# EAGLE library part FSJ_CC_CARD (library bt)
FSJ Cruise Command Card Card edge pads for Cruise Command (cruise control) module found in Full Size Jeeps and some AMC cars. The card edge connector is single-sided with 14 pins, of which two are not used, with a locator slot / terminal release between pins 8 and 9. The pads are spaced on a 5/32" pitch and are approximately 0.080 in. wide.
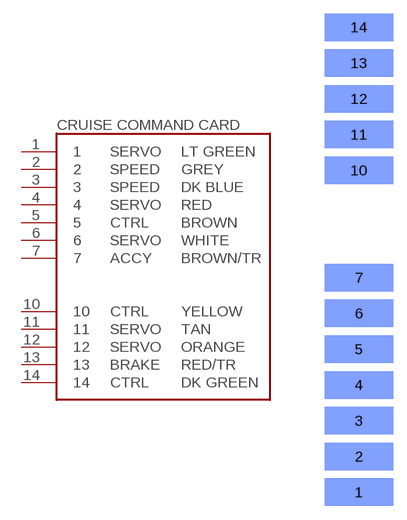
[diagram p15: symbol with the pads of FSJ_CC; footprint FSJ_CC]

Designator prefix -

## FSJ_CC_CARD  [FSJ_CC]
1  1
2  2
3  3
4  4
5  5
6  6
7  7
10  10
11  11
12  12
13  13
14  14

## Footprint FSJ_CC (pad centres in mm)
smd 7.62 x 3.048 bottom: 1 -3.81,2.381; 2 -3.81,6.35; 3 -3.81,10.319; 4 -3.81,14.287; 5 -3.81,18.256; 6 -3.81,22.225; 7 -3.81,26.194; 10 -3.81,38.1; 11 -3.81,42.069; 12 -3.81,46.038; 13 -3.81,50.006; 14 -3.81,53.975